# Altium integrated library Linear Technology Power Management Power Control.IntLib: 661 symbols (part 8 of 43)
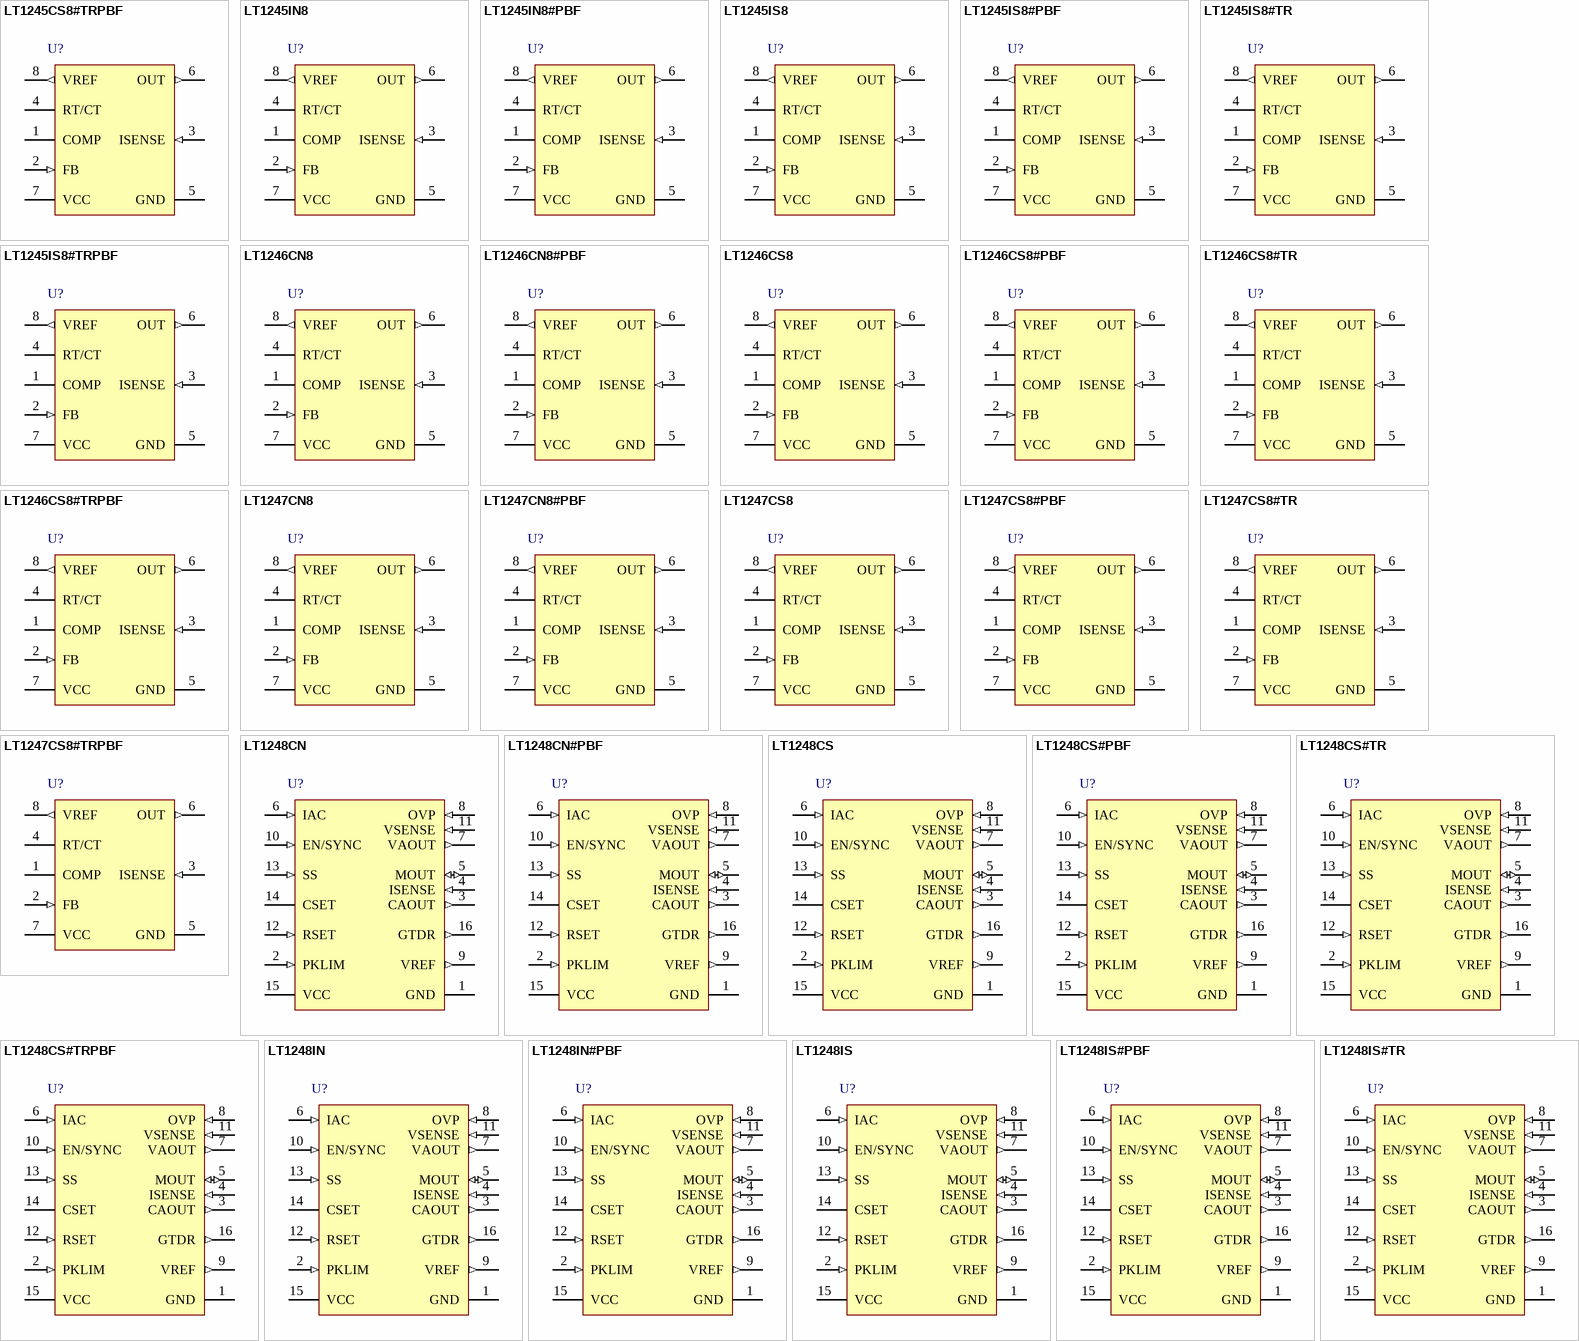
[diagram p26: symbols LT1245CS8#TRPBF to LT1248IS#TR]

## LT1247CS8#TRPBF
designator U?
1 MHz Off-Line Current Mode PWM and DC/DC Converter, 7.6 to 25 V Vin, 8-pin SOIC (S8-8), 0 to 100 degC, Pb-Free, Tape and Reel; Manufacturer: Linear Technology; PartNumber: LT1247CS8#TRPBF; DatasheetVersion: Rev. A; PackageVersion: Rev. G, 03/2012; PackageReference: S8-8; PackageDescription: 8-Pin Plastic Small Outline (Narrow .150 Inch), Body 4.9 x 3.9 mm, Pitch 1.27 mm; Supplier 1: Digi-Key; Supplier Part Number 1: LT1247CS8#TRPBF-ND; Packing: Tape and Reel; RoHS: TRUE; Mounting Technology: Surface Mount; ComponentLink1Description: Manufacturer URL; ComponentLink1URL: http://www.linear.com/; ComponentLink2Description: Datasheet; ComponentLink2URL: http://cds.linear.com/docs/en/datasheet/lt1246.pdf; ComponentLink3Description: Package Specification; ComponentLink3URL: http://cds.linear.com/docs/en/packaging/05081610_G_SO8.pdf
footprint LT-S8-8_N (SOIC, 8-Leads, Body 5x4mm, Pitch 1.27mm, IPC Medium Density)
footprint LT-S8-8_L (SOIC, 8-Leads, Body 5x4mm, Pitch 1.27mm, IPC High Density)
footprint LT-S8-8_M (SOIC, 8-Leads, Body 5x4mm, Pitch 1.27mm, IPC Low Density)
pins: 1 COMP "Compensation Pin. This pin is the output of the Error Amplifier and is made available for loop compensation. It can also be used to adjust the maximum value of the current sense clamp voltage to less than 1V. This pin can (See Datasheet)", 2 FB (in) "Voltage Feedback. This pin is the inverting input of the Error Amplifier. The output voltage is normally fed back to this pin through a resistive divider. The noninverting input of the Error Amplifier is internally committed (See Datasheet)", 3 ISENSE (in) "Current Sense. This is the input to the current sense comparator. The trip point of the comparator is set by, and is proportional to, the output voltage of the Error Amplifier.", 4 RT/CT "The oscillator frequency and the deadtime are set by connecting a resistor (RT) from VREF to RT/CT and a capacitor (CT) from RT/CT to GND. The rise time of the oscillator waveform is set by the RC time constant of RT and CT. (See Datasheet)", 5 GND (power) "Ground.", 6 OUT (out) "Current Output. This pin is the output of a high current totem pole output stage. It is capable of driving up to +/-1A of current into a capacitive load such as the gate of a MOSFET.", 7 VCC (power) "Supply Voltage. This pin is the positive supply of the control IC.", 8 VREF (out) "Reference. This is the reference output of the IC. The reference output is used to supply charging current to the external timing resistor RT. The reference provides biasing to a large portion of the internal circuitry, and (See Datasheet)"

## LT1248CN
designator U?
Power Factor Controller, 16-pin DIP (N-16), 0 to 100 degC; Manufacturer: Linear Technology; PartNumber: LT1248CN; DatasheetVersion: Rev. D; PackageVersion: Rev. I, 07/2011; PackageReference: N-16; PackageDescription: 16-Pin PDIP, Body 19.56 x 6.48 mm, Pitch 2.54 mm; Supplier 1: Digi-Key; Supplier Part Number 1: LT1248CN-ND; RoHS: FALSE; Mounting Technology: Through Hole; ComponentLink1Description: Manufacturer URL; ComponentLink1URL: http://www.linear.com/; ComponentLink2Description: Datasheet; ComponentLink2URL: http://cds.linear.com/docs/en/datasheet/1248fd.pdf; ComponentLink3Description: Package Specification; ComponentLink3URL: http://cds.linear.com/docs/en/packaging/05081510_I_N16.pdf
footprint LT-N-16 (DIP, 16-Leads, Body 19.56x6.48mm, Pitch 2.54mm)
pins: 1 GND (power), 2 PKLIM (in) "The threshold of the peak current limit comparator is GND. To set current limit, a resistor divider can be connected from VREF to current sense resistor", 3 CAOUT (out) "This is the output of the current amplifier that senses and forces the line current to follow the reference signal that comes from the multiplier by commanding the pulse width modulator. When CAOUT is low, the modulator has (See Datasheet)", 4 ISENSE (in) "This is the inverting input of the current amplifier. This pin is clamped at - 0.6V by an ESD protection diode.", 5 MOUT (io) "This is the multiplier high impedance current output and the noninverting input of the current amplifier. This pin is clamped at - 0.6V and 2V.", 6 IAC (in) "This is the AC line voltage sensing input to the multiplier. It is a current input that is biased at 2V to minimize the crossover dead zone caused by low line voltage. At the pin, a 32k resistor is in series with the current (See Datasheet)", 7 VAOUT (out) "This is the output of the voltage error amplifier. The output is clamped at 13.5V. When the output goes below 2.5V, the multiplier output current is zero.", 8 OVP (in) "This is the input to the overvoltage comparator. The threshold is 1.05 times the reference voltage. When the comparator trips, the multiplier is quickly inhibited and outputs no current. Figure 4 in the Applications (See Datasheet)", 9 VREF (out) "This is the 7.5V reference. When either VCC or EN/SYNC goes low, VREF will stay at 0V. VREF biases most of the internal circuity and can source up to 5mA externally.", 10 EN/SYNC (in) "This pin has two functions. When it goes below 2.6V, the chip goes into shutdown mode and draws little current. Pulses at this pin that go below the 5V threshold will synchronize the chip. The synchronizing pulses should (See Datasheet)", 11 VSENSE (in) "This is the inverting input to the voltage amplifier.", 12 RSET (in) "A resistor from RSET to GND sets the oscillator charging current and the maximum multiplier output current which is used to limit the maximum line current.", 13 SS (in) "Soft-Start. When either VCC or EN/SYNC goes low, the SS pin will stay at 0V. With a capacitor from the pin to GND, the 12mA charging current slowly brings up the SS to 8V; below 7.5V SS is the reference input to the voltage (See Datasheet)", 14 CSET "The capacitor from this pin to GND, and RSET, determine oscillator frequency. The oscillator ramp is 5V, and the frequency = 1.5/(RSET x CSET).", 15 VCC (power) "This is the supply for the chip. The LT1248 has a very fast gate driver required to fast charge high power MOSFET gate capacitance. High current spikes occur during charging. For good supply bypass, a 0.1uF ceramic capacitor (See Datasheet)", 16 GTDR (out) "The MOSFET gate driver is a 1.5A fast totem pole output. It is clamped at 15V, but capacitive loads like MOSFET gates may cause overshoot. A gate series resistor of at least 5ohm will prevent the overshoot."

## LT1248CN#PBF
designator U?
Power Factor Controller, 16-pin DIP (N-16), 0 to 100 degC, Pb-Free; Manufacturer: Linear Technology; PartNumber: LT1248CN#PBF; DatasheetVersion: Rev. D; PackageVersion: Rev. I, 07/2011; PackageReference: N-16; PackageDescription: 16-Pin PDIP, Body 19.56 x 6.48 mm, Pitch 2.54 mm; Supplier 1: Digi-Key; Supplier Part Number 1: LT1248CN#PBF-ND; Supplier 2: Farnell; Supplier Part Number 2: 2238178; Supplier 3: Newark; Supplier Part Number 3: 57M3014; RoHS: TRUE; Mounting Technology: Through Hole; ComponentLink1Description: Manufacturer URL; ComponentLink1URL: http://www.linear.com/; ComponentLink2Description: Datasheet; ComponentLink2URL: http://cds.linear.com/docs/en/datasheet/1248fd.pdf; ComponentLink3Description: Package Specification; ComponentLink3URL: http://cds.linear.com/docs/en/packaging/05081510_I_N16.pdf
footprint LT-N-16 (DIP, 16-Leads, Body 19.56x6.48mm, Pitch 2.54mm)
pins: 1 GND (power), 2 PKLIM (in) "The threshold of the peak current limit comparator is GND. To set current limit, a resistor divider can be connected from VREF to current sense resistor", 3 CAOUT (out) "This is the output of the current amplifier that senses and forces the line current to follow the reference signal that comes from the multiplier by commanding the pulse width modulator. When CAOUT is low, the modulator has (See Datasheet)", 4 ISENSE (in) "This is the inverting input of the current amplifier. This pin is clamped at - 0.6V by an ESD protection diode.", 5 MOUT (io) "This is the multiplier high impedance current output and the noninverting input of the current amplifier. This pin is clamped at - 0.6V and 2V.", 6 IAC (in) "This is the AC line voltage sensing input to the multiplier. It is a current input that is biased at 2V to minimize the crossover dead zone caused by low line voltage. At the pin, a 32k resistor is in series with the current (See Datasheet)", 7 VAOUT (out) "This is the output of the voltage error amplifier. The output is clamped at 13.5V. When the output goes below 2.5V, the multiplier output current is zero.", 8 OVP (in) "This is the input to the overvoltage comparator. The threshold is 1.05 times the reference voltage. When the comparator trips, the multiplier is quickly inhibited and outputs no current. Figure 4 in the Applications (See Datasheet)", 9 VREF (out) "This is the 7.5V reference. When either VCC or EN/SYNC goes low, VREF will stay at 0V. VREF biases most of the internal circuity and can source up to 5mA externally.", 10 EN/SYNC (in) "This pin has two functions. When it goes below 2.6V, the chip goes into shutdown mode and draws little current. Pulses at this pin that go below the 5V threshold will synchronize the chip. The synchronizing pulses should (See Datasheet)", 11 VSENSE (in) "This is the inverting input to the voltage amplifier.", 12 RSET (in) "A resistor from RSET to GND sets the oscillator charging current and the maximum multiplier output current which is used to limit the maximum line current.", 13 SS (in) "Soft-Start. When either VCC or EN/SYNC goes low, the SS pin will stay at 0V. With a capacitor from the pin to GND, the 12mA charging current slowly brings up the SS to 8V; below 7.5V SS is the reference input to the voltage (See Datasheet)", 14 CSET "The capacitor from this pin to GND, and RSET, determine oscillator frequency. The oscillator ramp is 5V, and the frequency = 1.5/(RSET x CSET).", 15 VCC (power) "This is the supply for the chip. The LT1248 has a very fast gate driver required to fast charge high power MOSFET gate capacitance. High current spikes occur during charging. For good supply bypass, a 0.1uF ceramic capacitor (See Datasheet)", 16 GTDR (out) "The MOSFET gate driver is a 1.5A fast totem pole output. It is clamped at 15V, but capacitive loads like MOSFET gates may cause overshoot. A gate series resistor of at least 5ohm will prevent the overshoot."

## LT1248CS
designator U?
Power Factor Controller, 16-pin SOP (S-16), 0 to 100 degC; Manufacturer: Linear Technology; PartNumber: LT1248CS; DatasheetVersion: Rev. D; PackageVersion: Rev. G, 05/2012; PackageReference: S-16; PackageDescription: 16-Pin Plastic Small Outline, Body 9.9 x 3.9 mm, Pitch 1.27 mm; Supplier 1: Digi-Key; Supplier Part Number 1: LT1248CS-ND; RoHS: FALSE; Mounting Technology: Surface Mount; ComponentLink1Description: Manufacturer URL; ComponentLink1URL: http://www.linear.com/; ComponentLink2Description: Datasheet; ComponentLink2URL: http://cds.linear.com/docs/en/datasheet/1248fd.pdf; ComponentLink3Description: Package Specification; ComponentLink3URL: http://cds.linear.com/docs/en/packaging/S16%2005-08-1610%20Rev%20G.pdf
footprint LT-S-16_N (SOP, 16-Leads, Body 10x4mm, Pitch 1.27mm, IPC Medium Density)
footprint LT-S-16_L (SOP, 16-Leads, Body 10x4mm, Pitch 1.27mm, IPC High Density)
footprint LT-S-16_M (SOP, 16-Leads, Body 10x4mm, Pitch 1.27mm, IPC Low Density)
pins: 1 GND (power), 2 PKLIM (in) "The threshold of the peak current limit comparator is GND. To set current limit, a resistor divider can be connected from VREF to current sense resistor", 3 CAOUT (out) "This is the output of the current amplifier that senses and forces the line current to follow the reference signal that comes from the multiplier by commanding the pulse width modulator. When CAOUT is low, the modulator has (See Datasheet)", 4 ISENSE (in) "This is the inverting input of the current amplifier. This pin is clamped at - 0.6V by an ESD protection diode.", 5 MOUT (io) "This is the multiplier high impedance current output and the noninverting input of the current amplifier. This pin is clamped at - 0.6V and 2V.", 6 IAC (in) "This is the AC line voltage sensing input to the multiplier. It is a current input that is biased at 2V to minimize the crossover dead zone caused by low line voltage. At the pin, a 32k resistor is in series with the current (See Datasheet)", 7 VAOUT (out) "This is the output of the voltage error amplifier. The output is clamped at 13.5V. When the output goes below 2.5V, the multiplier output current is zero.", 8 OVP (in) "This is the input to the overvoltage comparator. The threshold is 1.05 times the reference voltage. When the comparator trips, the multiplier is quickly inhibited and outputs no current. Figure 4 in the Applications (See Datasheet)", 9 VREF (out) "This is the 7.5V reference. When either VCC or EN/SYNC goes low, VREF will stay at 0V. VREF biases most of the internal circuity and can source up to 5mA externally.", 10 EN/SYNC (in) "This pin has two functions. When it goes below 2.6V, the chip goes into shutdown mode and draws little current. Pulses at this pin that go below the 5V threshold will synchronize the chip. The synchronizing pulses should (See Datasheet)", 11 VSENSE (in) "This is the inverting input to the voltage amplifier.", 12 RSET (in) "A resistor from RSET to GND sets the oscillator charging current and the maximum multiplier output current which is used to limit the maximum line current.", 13 SS (in) "Soft-Start. When either VCC or EN/SYNC goes low, the SS pin will stay at 0V. With a capacitor from the pin to GND, the 12mA charging current slowly brings up the SS to 8V; below 7.5V SS is the reference input to the voltage (See Datasheet)", 14 CSET "The capacitor from this pin to GND, and RSET, determine oscillator frequency. The oscillator ramp is 5V, and the frequency = 1.5/(RSET x CSET).", 15 VCC (power) "This is the supply for the chip. The LT1248 has a very fast gate driver required to fast charge high power MOSFET gate capacitance. High current spikes occur during charging. For good supply bypass, a 0.1uF ceramic capacitor (See Datasheet)", 16 GTDR (out) "The MOSFET gate driver is a 1.5A fast totem pole output. It is clamped at 15V, but capacitive loads like MOSFET gates may cause overshoot. A gate series resistor of at least 5ohm will prevent the overshoot."

## LT1248CS#PBF
designator U?
Power Factor Controller, 16-pin SOP (S-16), 0 to 100 degC, Pb-Free; Manufacturer: Linear Technology; PartNumber: LT1248CS#PBF; DatasheetVersion: Rev. D; PackageVersion: Rev. G, 05/2012; PackageReference: S-16; PackageDescription: 16-Pin Plastic Small Outline, Body 9.9 x 3.9 mm, Pitch 1.27 mm; Supplier 1: Digi-Key; Supplier Part Number 1: LT1248CS#PBF-ND; Supplier 2: Farnell; Supplier Part Number 2: 1273702; Supplier 3: Newark; Supplier Part Number 3: 57M3016; RoHS: TRUE; Mounting Technology: Surface Mount; ComponentLink1Description: Manufacturer URL; ComponentLink1URL: http://www.linear.com/; ComponentLink2Description: Datasheet; ComponentLink2URL: http://cds.linear.com/docs/en/datasheet/1248fd.pdf; ComponentLink3Description: Package Specification; ComponentLink3URL: http://cds.linear.com/docs/en/packaging/S16%2005-08-1610%20Rev%20G.pdf
footprint LT-S-16_N (SOP, 16-Leads, Body 10x4mm, Pitch 1.27mm, IPC Medium Density)
footprint LT-S-16_L (SOP, 16-Leads, Body 10x4mm, Pitch 1.27mm, IPC High Density)
footprint LT-S-16_M (SOP, 16-Leads, Body 10x4mm, Pitch 1.27mm, IPC Low Density)
pins: 1 GND (power), 2 PKLIM (in) "The threshold of the peak current limit comparator is GND. To set current limit, a resistor divider can be connected from VREF to current sense resistor", 3 CAOUT (out) "This is the output of the current amplifier that senses and forces the line current to follow the reference signal that comes from the multiplier by commanding the pulse width modulator. When CAOUT is low, the modulator has (See Datasheet)", 4 ISENSE (in) "This is the inverting input of the current amplifier. This pin is clamped at - 0.6V by an ESD protection diode.", 5 MOUT (io) "This is the multiplier high impedance current output and the noninverting input of the current amplifier. This pin is clamped at - 0.6V and 2V.", 6 IAC (in) "This is the AC line voltage sensing input to the multiplier. It is a current input that is biased at 2V to minimize the crossover dead zone caused by low line voltage. At the pin, a 32k resistor is in series with the current (See Datasheet)", 7 VAOUT (out) "This is the output of the voltage error amplifier. The output is clamped at 13.5V. When the output goes below 2.5V, the multiplier output current is zero.", 8 OVP (in) "This is the input to the overvoltage comparator. The threshold is 1.05 times the reference voltage. When the comparator trips, the multiplier is quickly inhibited and outputs no current. Figure 4 in the Applications (See Datasheet)", 9 VREF (out) "This is the 7.5V reference. When either VCC or EN/SYNC goes low, VREF will stay at 0V. VREF biases most of the internal circuity and can source up to 5mA externally.", 10 EN/SYNC (in) "This pin has two functions. When it goes below 2.6V, the chip goes into shutdown mode and draws little current. Pulses at this pin that go below the 5V threshold will synchronize the chip. The synchronizing pulses should (See Datasheet)", 11 VSENSE (in) "This is the inverting input to the voltage amplifier.", 12 RSET (in) "A resistor from RSET to GND sets the oscillator charging current and the maximum multiplier output current which is used to limit the maximum line current.", 13 SS (in) "Soft-Start. When either VCC or EN/SYNC goes low, the SS pin will stay at 0V. With a capacitor from the pin to GND, the 12mA charging current slowly brings up the SS to 8V; below 7.5V SS is the reference input to the voltage (See Datasheet)", 14 CSET "The capacitor from this pin to GND, and RSET, determine oscillator frequency. The oscillator ramp is 5V, and the frequency = 1.5/(RSET x CSET).", 15 VCC (power) "This is the supply for the chip. The LT1248 has a very fast gate driver required to fast charge high power MOSFET gate capacitance. High current spikes occur during charging. For good supply bypass, a 0.1uF ceramic capacitor (See Datasheet)", 16 GTDR (out) "The MOSFET gate driver is a 1.5A fast totem pole output. It is clamped at 15V, but capacitive loads like MOSFET gates may cause overshoot. A gate series resistor of at least 5ohm will prevent the overshoot."

## LT1248CS#TR
designator U?
Power Factor Controller, 16-pin SOP (S-16), 0 to 100 degC, Tape and Reel; Manufacturer: Linear Technology; PartNumber: LT1248CS#TR; DatasheetVersion: Rev. D; PackageVersion: Rev. G, 05/2012; PackageReference: S-16; PackageDescription: 16-Pin Plastic Small Outline, Body 9.9 x 3.9 mm, Pitch 1.27 mm; Supplier 1: Digi-Key; Supplier Part Number 1: LT1248CS#TR-ND; Packing: Tape and Reel; RoHS: FALSE; Mounting Technology: Surface Mount; ComponentLink1Description: Manufacturer URL; ComponentLink1URL: http://www.linear.com/; ComponentLink2Description: Datasheet; ComponentLink2URL: http://cds.linear.com/docs/en/datasheet/1248fd.pdf; ComponentLink3Description: Package Specification; ComponentLink3URL: http://cds.linear.com/docs/en/packaging/S16%2005-08-1610%20Rev%20G.pdf
footprint LT-S-16_N (SOP, 16-Leads, Body 10x4mm, Pitch 1.27mm, IPC Medium Density)
footprint LT-S-16_L (SOP, 16-Leads, Body 10x4mm, Pitch 1.27mm, IPC High Density)
footprint LT-S-16_M (SOP, 16-Leads, Body 10x4mm, Pitch 1.27mm, IPC Low Density)
pins: 1 GND (power), 2 PKLIM (in) "The threshold of the peak current limit comparator is GND. To set current limit, a resistor divider can be connected from VREF to current sense resistor", 3 CAOUT (out) "This is the output of the current amplifier that senses and forces the line current to follow the reference signal that comes from the multiplier by commanding the pulse width modulator. When CAOUT is low, the modulator has (See Datasheet)", 4 ISENSE (in) "This is the inverting input of the current amplifier. This pin is clamped at - 0.6V by an ESD protection diode.", 5 MOUT (io) "This is the multiplier high impedance current output and the noninverting input of the current amplifier. This pin is clamped at - 0.6V and 2V.", 6 IAC (in) "This is the AC line voltage sensing input to the multiplier. It is a current input that is biased at 2V to minimize the crossover dead zone caused by low line voltage. At the pin, a 32k resistor is in series with the current (See Datasheet)", 7 VAOUT (out) "This is the output of the voltage error amplifier. The output is clamped at 13.5V. When the output goes below 2.5V, the multiplier output current is zero.", 8 OVP (in) "This is the input to the overvoltage comparator. The threshold is 1.05 times the reference voltage. When the comparator trips, the multiplier is quickly inhibited and outputs no current. Figure 4 in the Applications (See Datasheet)", 9 VREF (out) "This is the 7.5V reference. When either VCC or EN/SYNC goes low, VREF will stay at 0V. VREF biases most of the internal circuity and can source up to 5mA externally.", 10 EN/SYNC (in) "This pin has two functions. When it goes below 2.6V, the chip goes into shutdown mode and draws little current. Pulses at this pin that go below the 5V threshold will synchronize the chip. The synchronizing pulses should (See Datasheet)", 11 VSENSE (in) "This is the inverting input to the voltage amplifier.", 12 RSET (in) "A resistor from RSET to GND sets the oscillator charging current and the maximum multiplier output current which is used to limit the maximum line current.", 13 SS (in) "Soft-Start. When either VCC or EN/SYNC goes low, the SS pin will stay at 0V. With a capacitor from the pin to GND, the 12mA charging current slowly brings up the SS to 8V; below 7.5V SS is the reference input to the voltage (See Datasheet)", 14 CSET "The capacitor from this pin to GND, and RSET, determine oscillator frequency. The oscillator ramp is 5V, and the frequency = 1.5/(RSET x CSET).", 15 VCC (power) "This is the supply for the chip. The LT1248 has a very fast gate driver required to fast charge high power MOSFET gate capacitance. High current spikes occur during charging. For good supply bypass, a 0.1uF ceramic capacitor (See Datasheet)", 16 GTDR (out) "The MOSFET gate driver is a 1.5A fast totem pole output. It is clamped at 15V, but capacitive loads like MOSFET gates may cause overshoot. A gate series resistor of at least 5ohm will prevent the overshoot."

## LT1248CS#TRPBF
designator U?
Power Factor Controller, 16-pin SOP (S-16), 0 to 100 degC, Pb-Free, Tape and Reel; Manufacturer: Linear Technology; PartNumber: LT1248CS#TRPBF; DatasheetVersion: Rev. D; PackageVersion: Rev. G, 05/2012; PackageReference: S-16; PackageDescription: 16-Pin Plastic Small Outline, Body 9.9 x 3.9 mm, Pitch 1.27 mm; Supplier 1: Digi-Key; Supplier Part Number 1: LT1248CS#TRPBF-ND; Supplier 2: Newark; Supplier Part Number 2: 57M3018; Packing: Tape and Reel; RoHS: TRUE; Mounting Technology: Surface Mount; ComponentLink1Description: Manufacturer URL; ComponentLink1URL: http://www.linear.com/; ComponentLink2Description: Datasheet; ComponentLink2URL: http://cds.linear.com/docs/en/datasheet/1248fd.pdf; ComponentLink3Description: Package Specification; ComponentLink3URL: http://cds.linear.com/docs/en/packaging/S16%2005-08-1610%20Rev%20G.pdf
footprint LT-S-16_N (SOP, 16-Leads, Body 10x4mm, Pitch 1.27mm, IPC Medium Density)
footprint LT-S-16_L (SOP, 16-Leads, Body 10x4mm, Pitch 1.27mm, IPC High Density)
footprint LT-S-16_M (SOP, 16-Leads, Body 10x4mm, Pitch 1.27mm, IPC Low Density)
pins: 1 GND (power), 2 PKLIM (in) "The threshold of the peak current limit comparator is GND. To set current limit, a resistor divider can be connected from VREF to current sense resistor", 3 CAOUT (out) "This is the output of the current amplifier that senses and forces the line current to follow the reference signal that comes from the multiplier by commanding the pulse width modulator. When CAOUT is low, the modulator has (See Datasheet)", 4 ISENSE (in) "This is the inverting input of the current amplifier. This pin is clamped at - 0.6V by an ESD protection diode.", 5 MOUT (io) "This is the multiplier high impedance current output and the noninverting input of the current amplifier. This pin is clamped at - 0.6V and 2V.", 6 IAC (in) "This is the AC line voltage sensing input to the multiplier. It is a current input that is biased at 2V to minimize the crossover dead zone caused by low line voltage. At the pin, a 32k resistor is in series with the current (See Datasheet)", 7 VAOUT (out) "This is the output of the voltage error amplifier. The output is clamped at 13.5V. When the output goes below 2.5V, the multiplier output current is zero.", 8 OVP (in) "This is the input to the overvoltage comparator. The threshold is 1.05 times the reference voltage. When the comparator trips, the multiplier is quickly inhibited and outputs no current. Figure 4 in the Applications (See Datasheet)", 9 VREF (out) "This is the 7.5V reference. When either VCC or EN/SYNC goes low, VREF will stay at 0V. VREF biases most of the internal circuity and can source up to 5mA externally.", 10 EN/SYNC (in) "This pin has two functions. When it goes below 2.6V, the chip goes into shutdown mode and draws little current. Pulses at this pin that go below the 5V threshold will synchronize the chip. The synchronizing pulses should (See Datasheet)", 11 VSENSE (in) "This is the inverting input to the voltage amplifier.", 12 RSET (in) "A resistor from RSET to GND sets the oscillator charging current and the maximum multiplier output current which is used to limit the maximum line current.", 13 SS (in) "Soft-Start. When either VCC or EN/SYNC goes low, the SS pin will stay at 0V. With a capacitor from the pin to GND, the 12mA charging current slowly brings up the SS to 8V; below 7.5V SS is the reference input to the voltage (See Datasheet)", 14 CSET "The capacitor from this pin to GND, and RSET, determine oscillator frequency. The oscillator ramp is 5V, and the frequency = 1.5/(RSET x CSET).", 15 VCC (power) "This is the supply for the chip. The LT1248 has a very fast gate driver required to fast charge high power MOSFET gate capacitance. High current spikes occur during charging. For good supply bypass, a 0.1uF ceramic capacitor (See Datasheet)", 16 GTDR (out) "The MOSFET gate driver is a 1.5A fast totem pole output. It is clamped at 15V, but capacitive loads like MOSFET gates may cause overshoot. A gate series resistor of at least 5ohm will prevent the overshoot."

## LT1248IN
designator U?
Power Factor Controller, 16-pin DIP (N-16), -40 to 125 degC; Manufacturer: Linear Technology; PartNumber: LT1248IN; DatasheetVersion: Rev. D; PackageVersion: Rev. I, 07/2011; PackageReference: N-16; PackageDescription: 16-Pin PDIP, Body 19.56 x 6.48 mm, Pitch 2.54 mm; Supplier 1: Digi-Key; Supplier Part Number 1: LT1248IN-ND; RoHS: FALSE; Mounting Technology: Through Hole; ComponentLink1Description: Manufacturer URL; ComponentLink1URL: http://www.linear.com/; ComponentLink2Description: Datasheet; ComponentLink2URL: http://cds.linear.com/docs/en/datasheet/1248fd.pdf; ComponentLink3Description: Package Specification; ComponentLink3URL: http://cds.linear.com/docs/en/packaging/05081510_I_N16.pdf
footprint LT-N-16 (DIP, 16-Leads, Body 19.56x6.48mm, Pitch 2.54mm)
pins: 1 GND (power), 2 PKLIM (in) "The threshold of the peak current limit comparator is GND. To set current limit, a resistor divider can be connected from VREF to current sense resistor", 3 CAOUT (out) "This is the output of the current amplifier that senses and forces the line current to follow the reference signal that comes from the multiplier by commanding the pulse width modulator. When CAOUT is low, the modulator has (See Datasheet)", 4 ISENSE (in) "This is the inverting input of the current amplifier. This pin is clamped at - 0.6V by an ESD protection diode.", 5 MOUT (io) "This is the multiplier high impedance current output and the noninverting input of the current amplifier. This pin is clamped at - 0.6V and 2V.", 6 IAC (in) "This is the AC line voltage sensing input to the multiplier. It is a current input that is biased at 2V to minimize the crossover dead zone caused by low line voltage. At the pin, a 32k resistor is in series with the current (See Datasheet)", 7 VAOUT (out) "This is the output of the voltage error amplifier. The output is clamped at 13.5V. When the output goes below 2.5V, the multiplier output current is zero.", 8 OVP (in) "This is the input to the overvoltage comparator. The threshold is 1.05 times the reference voltage. When the comparator trips, the multiplier is quickly inhibited and outputs no current. Figure 4 in the Applications (See Datasheet)", 9 VREF (out) "This is the 7.5V reference. When either VCC or EN/SYNC goes low, VREF will stay at 0V. VREF biases most of the internal circuity and can source up to 5mA externally.", 10 EN/SYNC (in) "This pin has two functions. When it goes below 2.6V, the chip goes into shutdown mode and draws little current. Pulses at this pin that go below the 5V threshold will synchronize the chip. The synchronizing pulses should (See Datasheet)", 11 VSENSE (in) "This is the inverting input to the voltage amplifier.", 12 RSET (in) "A resistor from RSET to GND sets the oscillator charging current and the maximum multiplier output current which is used to limit the maximum line current.", 13 SS (in) "Soft-Start. When either VCC or EN/SYNC goes low, the SS pin will stay at 0V. With a capacitor from the pin to GND, the 12mA charging current slowly brings up the SS to 8V; below 7.5V SS is the reference input to the voltage (See Datasheet)", 14 CSET "The capacitor from this pin to GND, and RSET, determine oscillator frequency. The oscillator ramp is 5V, and the frequency = 1.5/(RSET x CSET).", 15 VCC (power) "This is the supply for the chip. The LT1248 has a very fast gate driver required to fast charge high power MOSFET gate capacitance. High current spikes occur during charging. For good supply bypass, a 0.1uF ceramic capacitor (See Datasheet)", 16 GTDR (out) "The MOSFET gate driver is a 1.5A fast totem pole output. It is clamped at 15V, but capacitive loads like MOSFET gates may cause overshoot. A gate series resistor of at least 5ohm will prevent the overshoot."

## LT1248IN#PBF
designator U?
Power Factor Controller, 16-pin DIP (N-16), -40 to 125 degC, Pb-Free; Manufacturer: Linear Technology; PartNumber: LT1248IN#PBF; DatasheetVersion: Rev. D; PackageVersion: Rev. I, 07/2011; PackageReference: N-16; PackageDescription: 16-Pin PDIP, Body 19.56 x 6.48 mm, Pitch 2.54 mm; Supplier 1: Digi-Key; Supplier Part Number 1: LT1248IN#PBF-ND; RoHS: TRUE; Mounting Technology: Through Hole; ComponentLink1Description: Manufacturer URL; ComponentLink1URL: http://www.linear.com/; ComponentLink2Description: Datasheet; ComponentLink2URL: http://cds.linear.com/docs/en/datasheet/1248fd.pdf; ComponentLink3Description: Package Specification; ComponentLink3URL: http://cds.linear.com/docs/en/packaging/05081510_I_N16.pdf
footprint LT-N-16 (DIP, 16-Leads, Body 19.56x6.48mm, Pitch 2.54mm)
pins: 1 GND (power), 2 PKLIM (in) "The threshold of the peak current limit comparator is GND. To set current limit, a resistor divider can be connected from VREF to current sense resistor", 3 CAOUT (out) "This is the output of the current amplifier that senses and forces the line current to follow the reference signal that comes from the multiplier by commanding the pulse width modulator. When CAOUT is low, the modulator has (See Datasheet)", 4 ISENSE (in) "This is the inverting input of the current amplifier. This pin is clamped at - 0.6V by an ESD protection diode.", 5 MOUT (io) "This is the multiplier high impedance current output and the noninverting input of the current amplifier. This pin is clamped at - 0.6V and 2V.", 6 IAC (in) "This is the AC line voltage sensing input to the multiplier. It is a current input that is biased at 2V to minimize the crossover dead zone caused by low line voltage. At the pin, a 32k resistor is in series with the current (See Datasheet)", 7 VAOUT (out) "This is the output of the voltage error amplifier. The output is clamped at 13.5V. When the output goes below 2.5V, the multiplier output current is zero.", 8 OVP (in) "This is the input to the overvoltage comparator. The threshold is 1.05 times the reference voltage. When the comparator trips, the multiplier is quickly inhibited and outputs no current. Figure 4 in the Applications (See Datasheet)", 9 VREF (out) "This is the 7.5V reference. When either VCC or EN/SYNC goes low, VREF will stay at 0V. VREF biases most of the internal circuity and can source up to 5mA externally.", 10 EN/SYNC (in) "This pin has two functions. When it goes below 2.6V, the chip goes into shutdown mode and draws little current. Pulses at this pin that go below the 5V threshold will synchronize the chip. The synchronizing pulses should (See Datasheet)", 11 VSENSE (in) "This is the inverting input to the voltage amplifier.", 12 RSET (in) "A resistor from RSET to GND sets the oscillator charging current and the maximum multiplier output current which is used to limit the maximum line current.", 13 SS (in) "Soft-Start. When either VCC or EN/SYNC goes low, the SS pin will stay at 0V. With a capacitor from the pin to GND, the 12mA charging current slowly brings up the SS to 8V; below 7.5V SS is the reference input to the voltage (See Datasheet)", 14 CSET "The capacitor from this pin to GND, and RSET, determine oscillator frequency. The oscillator ramp is 5V, and the frequency = 1.5/(RSET x CSET).", 15 VCC (power) "This is the supply for the chip. The LT1248 has a very fast gate driver required to fast charge high power MOSFET gate capacitance. High current spikes occur during charging. For good supply bypass, a 0.1uF ceramic capacitor (See Datasheet)", 16 GTDR (out) "The MOSFET gate driver is a 1.5A fast totem pole output. It is clamped at 15V, but capacitive loads like MOSFET gates may cause overshoot. A gate series resistor of at least 5ohm will prevent the overshoot."

## LT1248IS
designator U?
Power Factor Controller, 16-pin SOP (S-16), -40 to 125 degC; Manufacturer: Linear Technology; PartNumber: LT1248IS; DatasheetVersion: Rev. D; PackageVersion: Rev. G, 05/2012; PackageReference: S-16; PackageDescription: 16-Pin Plastic Small Outline, Body 9.9 x 3.9 mm, Pitch 1.27 mm; Supplier 1: Digi-Key; Supplier Part Number 1: LT1248IS-ND; Supplier 2: Newark; Supplier Part Number 2: 57M3021; RoHS: FALSE; Mounting Technology: Surface Mount; ComponentLink1Description: Manufacturer URL; ComponentLink1URL: http://www.linear.com/; ComponentLink2Description: Datasheet; ComponentLink2URL: http://cds.linear.com/docs/en/datasheet/1248fd.pdf; ComponentLink3Description: Package Specification; ComponentLink3URL: http://cds.linear.com/docs/en/packaging/S16%2005-08-1610%20Rev%20G.pdf
footprint LT-S-16_N (SOP, 16-Leads, Body 10x4mm, Pitch 1.27mm, IPC Medium Density)
footprint LT-S-16_L (SOP, 16-Leads, Body 10x4mm, Pitch 1.27mm, IPC High Density)
footprint LT-S-16_M (SOP, 16-Leads, Body 10x4mm, Pitch 1.27mm, IPC Low Density)
pins: 1 GND (power), 2 PKLIM (in) "The threshold of the peak current limit comparator is GND. To set current limit, a resistor divider can be connected from VREF to current sense resistor", 3 CAOUT (out) "This is the output of the current amplifier that senses and forces the line current to follow the reference signal that comes from the multiplier by commanding the pulse width modulator. When CAOUT is low, the modulator has (See Datasheet)", 4 ISENSE (in) "This is the inverting input of the current amplifier. This pin is clamped at - 0.6V by an ESD protection diode.", 5 MOUT (io) "This is the multiplier high impedance current output and the noninverting input of the current amplifier. This pin is clamped at - 0.6V and 2V.", 6 IAC (in) "This is the AC line voltage sensing input to the multiplier. It is a current input that is biased at 2V to minimize the crossover dead zone caused by low line voltage. At the pin, a 32k resistor is in series with the current (See Datasheet)", 7 VAOUT (out) "This is the output of the voltage error amplifier. The output is clamped at 13.5V. When the output goes below 2.5V, the multiplier output current is zero.", 8 OVP (in) "This is the input to the overvoltage comparator. The threshold is 1.05 times the reference voltage. When the comparator trips, the multiplier is quickly inhibited and outputs no current. Figure 4 in the Applications (See Datasheet)", 9 VREF (out) "This is the 7.5V reference. When either VCC or EN/SYNC goes low, VREF will stay at 0V. VREF biases most of the internal circuity and can source up to 5mA externally.", 10 EN/SYNC (in) "This pin has two functions. When it goes below 2.6V, the chip goes into shutdown mode and draws little current. Pulses at this pin that go below the 5V threshold will synchronize the chip. The synchronizing pulses should (See Datasheet)", 11 VSENSE (in) "This is the inverting input to the voltage amplifier.", 12 RSET (in) "A resistor from RSET to GND sets the oscillator charging current and the maximum multiplier output current which is used to limit the maximum line current.", 13 SS (in) "Soft-Start. When either VCC or EN/SYNC goes low, the SS pin will stay at 0V. With a capacitor from the pin to GND, the 12mA charging current slowly brings up the SS to 8V; below 7.5V SS is the reference input to the voltage (See Datasheet)", 14 CSET "The capacitor from this pin to GND, and RSET, determine oscillator frequency. The oscillator ramp is 5V, and the frequency = 1.5/(RSET x CSET).", 15 VCC (power) "This is the supply for the chip. The LT1248 has a very fast gate driver required to fast charge high power MOSFET gate capacitance. High current spikes occur during charging. For good supply bypass, a 0.1uF ceramic capacitor (See Datasheet)", 16 GTDR (out) "The MOSFET gate driver is a 1.5A fast totem pole output. It is clamped at 15V, but capacitive loads like MOSFET gates may cause overshoot. A gate series resistor of at least 5ohm will prevent the overshoot."

## LT1248IS#PBF
designator U?
Power Factor Controller, 16-pin SOP (S-16), -40 to 125 degC, Pb-Free; Manufacturer: Linear Technology; PartNumber: LT1248IS#PBF; DatasheetVersion: Rev. D; PackageVersion: Rev. G, 05/2012; PackageReference: S-16; PackageDescription: 16-Pin Plastic Small Outline, Body 9.9 x 3.9 mm, Pitch 1.27 mm; Supplier 1: Digi-Key; Supplier Part Number 1: LT1248IS#PBF-ND; Supplier 2: Farnell; Supplier Part Number 2: 2238179; Supplier 3: Newark; Supplier Part Number 3: 57M3022; RoHS: TRUE; Mounting Technology: Surface Mount; ComponentLink1Description: Manufacturer URL; ComponentLink1URL: http://www.linear.com/; ComponentLink2Description: Datasheet; ComponentLink2URL: http://cds.linear.com/docs/en/datasheet/1248fd.pdf; ComponentLink3Description: Package Specification; ComponentLink3URL: http://cds.linear.com/docs/en/packaging/S16%2005-08-1610%20Rev%20G.pdf
footprint LT-S-16_N (SOP, 16-Leads, Body 10x4mm, Pitch 1.27mm, IPC Medium Density)
footprint LT-S-16_L (SOP, 16-Leads, Body 10x4mm, Pitch 1.27mm, IPC High Density)
footprint LT-S-16_M (SOP, 16-Leads, Body 10x4mm, Pitch 1.27mm, IPC Low Density)
pins: 1 GND (power), 2 PKLIM (in) "The threshold of the peak current limit comparator is GND. To set current limit, a resistor divider can be connected from VREF to current sense resistor", 3 CAOUT (out) "This is the output of the current amplifier that senses and forces the line current to follow the reference signal that comes from the multiplier by commanding the pulse width modulator. When CAOUT is low, the modulator has (See Datasheet)", 4 ISENSE (in) "This is the inverting input of the current amplifier. This pin is clamped at - 0.6V by an ESD protection diode.", 5 MOUT (io) "This is the multiplier high impedance current output and the noninverting input of the current amplifier. This pin is clamped at - 0.6V and 2V.", 6 IAC (in) "This is the AC line voltage sensing input to the multiplier. It is a current input that is biased at 2V to minimize the crossover dead zone caused by low line voltage. At the pin, a 32k resistor is in series with the current (See Datasheet)", 7 VAOUT (out) "This is the output of the voltage error amplifier. The output is clamped at 13.5V. When the output goes below 2.5V, the multiplier output current is zero.", 8 OVP (in) "This is the input to the overvoltage comparator. The threshold is 1.05 times the reference voltage. When the comparator trips, the multiplier is quickly inhibited and outputs no current. Figure 4 in the Applications (See Datasheet)", 9 VREF (out) "This is the 7.5V reference. When either VCC or EN/SYNC goes low, VREF will stay at 0V. VREF biases most of the internal circuity and can source up to 5mA externally.", 10 EN/SYNC (in) "This pin has two functions. When it goes below 2.6V, the chip goes into shutdown mode and draws little current. Pulses at this pin that go below the 5V threshold will synchronize the chip. The synchronizing pulses should (See Datasheet)", 11 VSENSE (in) "This is the inverting input to the voltage amplifier.", 12 RSET (in) "A resistor from RSET to GND sets the oscillator charging current and the maximum multiplier output current which is used to limit the maximum line current.", 13 SS (in) "Soft-Start. When either VCC or EN/SYNC goes low, the SS pin will stay at 0V. With a capacitor from the pin to GND, the 12mA charging current slowly brings up the SS to 8V; below 7.5V SS is the reference input to the voltage (See Datasheet)", 14 CSET "The capacitor from this pin to GND, and RSET, determine oscillator frequency. The oscillator ramp is 5V, and the frequency = 1.5/(RSET x CSET).", 15 VCC (power) "This is the supply for the chip. The LT1248 has a very fast gate driver required to fast charge high power MOSFET gate capacitance. High current spikes occur during charging. For good supply bypass, a 0.1uF ceramic capacitor (See Datasheet)", 16 GTDR (out) "The MOSFET gate driver is a 1.5A fast totem pole output. It is clamped at 15V, but capacitive loads like MOSFET gates may cause overshoot. A gate series resistor of at least 5ohm will prevent the overshoot."

## LT1248IS#TR
designator U?
Power Factor Controller, 16-pin SOP (S-16), -40 to 125 degC, Tape and Reel; Manufacturer: Linear Technology; PartNumber: LT1248IS#TR; DatasheetVersion: Rev. D; PackageVersion: Rev. G, 05/2012; PackageReference: S-16; PackageDescription: 16-Pin Plastic Small Outline, Body 9.9 x 3.9 mm, Pitch 1.27 mm; Supplier 1: Digi-Key; Supplier Part Number 1: LT1248IS#TR-ND; Packing: Tape and Reel; RoHS: FALSE; Mounting Technology: Surface Mount; ComponentLink1Description: Manufacturer URL; ComponentLink1URL: http://www.linear.com/; ComponentLink2Description: Datasheet; ComponentLink2URL: http://cds.linear.com/docs/en/datasheet/1248fd.pdf; ComponentLink3Description: Package Specification; ComponentLink3URL: http://cds.linear.com/docs/en/packaging/S16%2005-08-1610%20Rev%20G.pdf
footprint LT-S-16_N (SOP, 16-Leads, Body 10x4mm, Pitch 1.27mm, IPC Medium Density)
footprint LT-S-16_L (SOP, 16-Leads, Body 10x4mm, Pitch 1.27mm, IPC High Density)
footprint LT-S-16_M (SOP, 16-Leads, Body 10x4mm, Pitch 1.27mm, IPC Low Density)
pins: 1 GND (power), 2 PKLIM (in) "The threshold of the peak current limit comparator is GND. To set current limit, a resistor divider can be connected from VREF to current sense resistor", 3 CAOUT (out) "This is the output of the current amplifier that senses and forces the line current to follow the reference signal that comes from the multiplier by commanding the pulse width modulator. When CAOUT is low, the modulator has (See Datasheet)", 4 ISENSE (in) "This is the inverting input of the current amplifier. This pin is clamped at - 0.6V by an ESD protection diode.", 5 MOUT (io) "This is the multiplier high impedance current output and the noninverting input of the current amplifier. This pin is clamped at - 0.6V and 2V.", 6 IAC (in) "This is the AC line voltage sensing input to the multiplier. It is a current input that is biased at 2V to minimize the crossover dead zone caused by low line voltage. At the pin, a 32k resistor is in series with the current (See Datasheet)", 7 VAOUT (out) "This is the output of the voltage error amplifier. The output is clamped at 13.5V. When the output goes below 2.5V, the multiplier output current is zero.", 8 OVP (in) "This is the input to the overvoltage comparator. The threshold is 1.05 times the reference voltage. When the comparator trips, the multiplier is quickly inhibited and outputs no current. Figure 4 in the Applications (See Datasheet)", 9 VREF (out) "This is the 7.5V reference. When either VCC or EN/SYNC goes low, VREF will stay at 0V. VREF biases most of the internal circuity and can source up to 5mA externally.", 10 EN/SYNC (in) "This pin has two functions. When it goes below 2.6V, the chip goes into shutdown mode and draws little current. Pulses at this pin that go below the 5V threshold will synchronize the chip. The synchronizing pulses should (See Datasheet)", 11 VSENSE (in) "This is the inverting input to the voltage amplifier.", 12 RSET (in) "A resistor from RSET to GND sets the oscillator charging current and the maximum multiplier output current which is used to limit the maximum line current.", 13 SS (in) "Soft-Start. When either VCC or EN/SYNC goes low, the SS pin will stay at 0V. With a capacitor from the pin to GND, the 12mA charging current slowly brings up the SS to 8V; below 7.5V SS is the reference input to the voltage (See Datasheet)", 14 CSET "The capacitor from this pin to GND, and RSET, determine oscillator frequency. The oscillator ramp is 5V, and the frequency = 1.5/(RSET x CSET).", 15 VCC (power) "This is the supply for the chip. The LT1248 has a very fast gate driver required to fast charge high power MOSFET gate capacitance. High current spikes occur during charging. For good supply bypass, a 0.1uF ceramic capacitor (See Datasheet)", 16 GTDR (out) "The MOSFET gate driver is a 1.5A fast totem pole output. It is clamped at 15V, but capacitive loads like MOSFET gates may cause overshoot. A gate series resistor of at least 5ohm will prevent the overshoot."

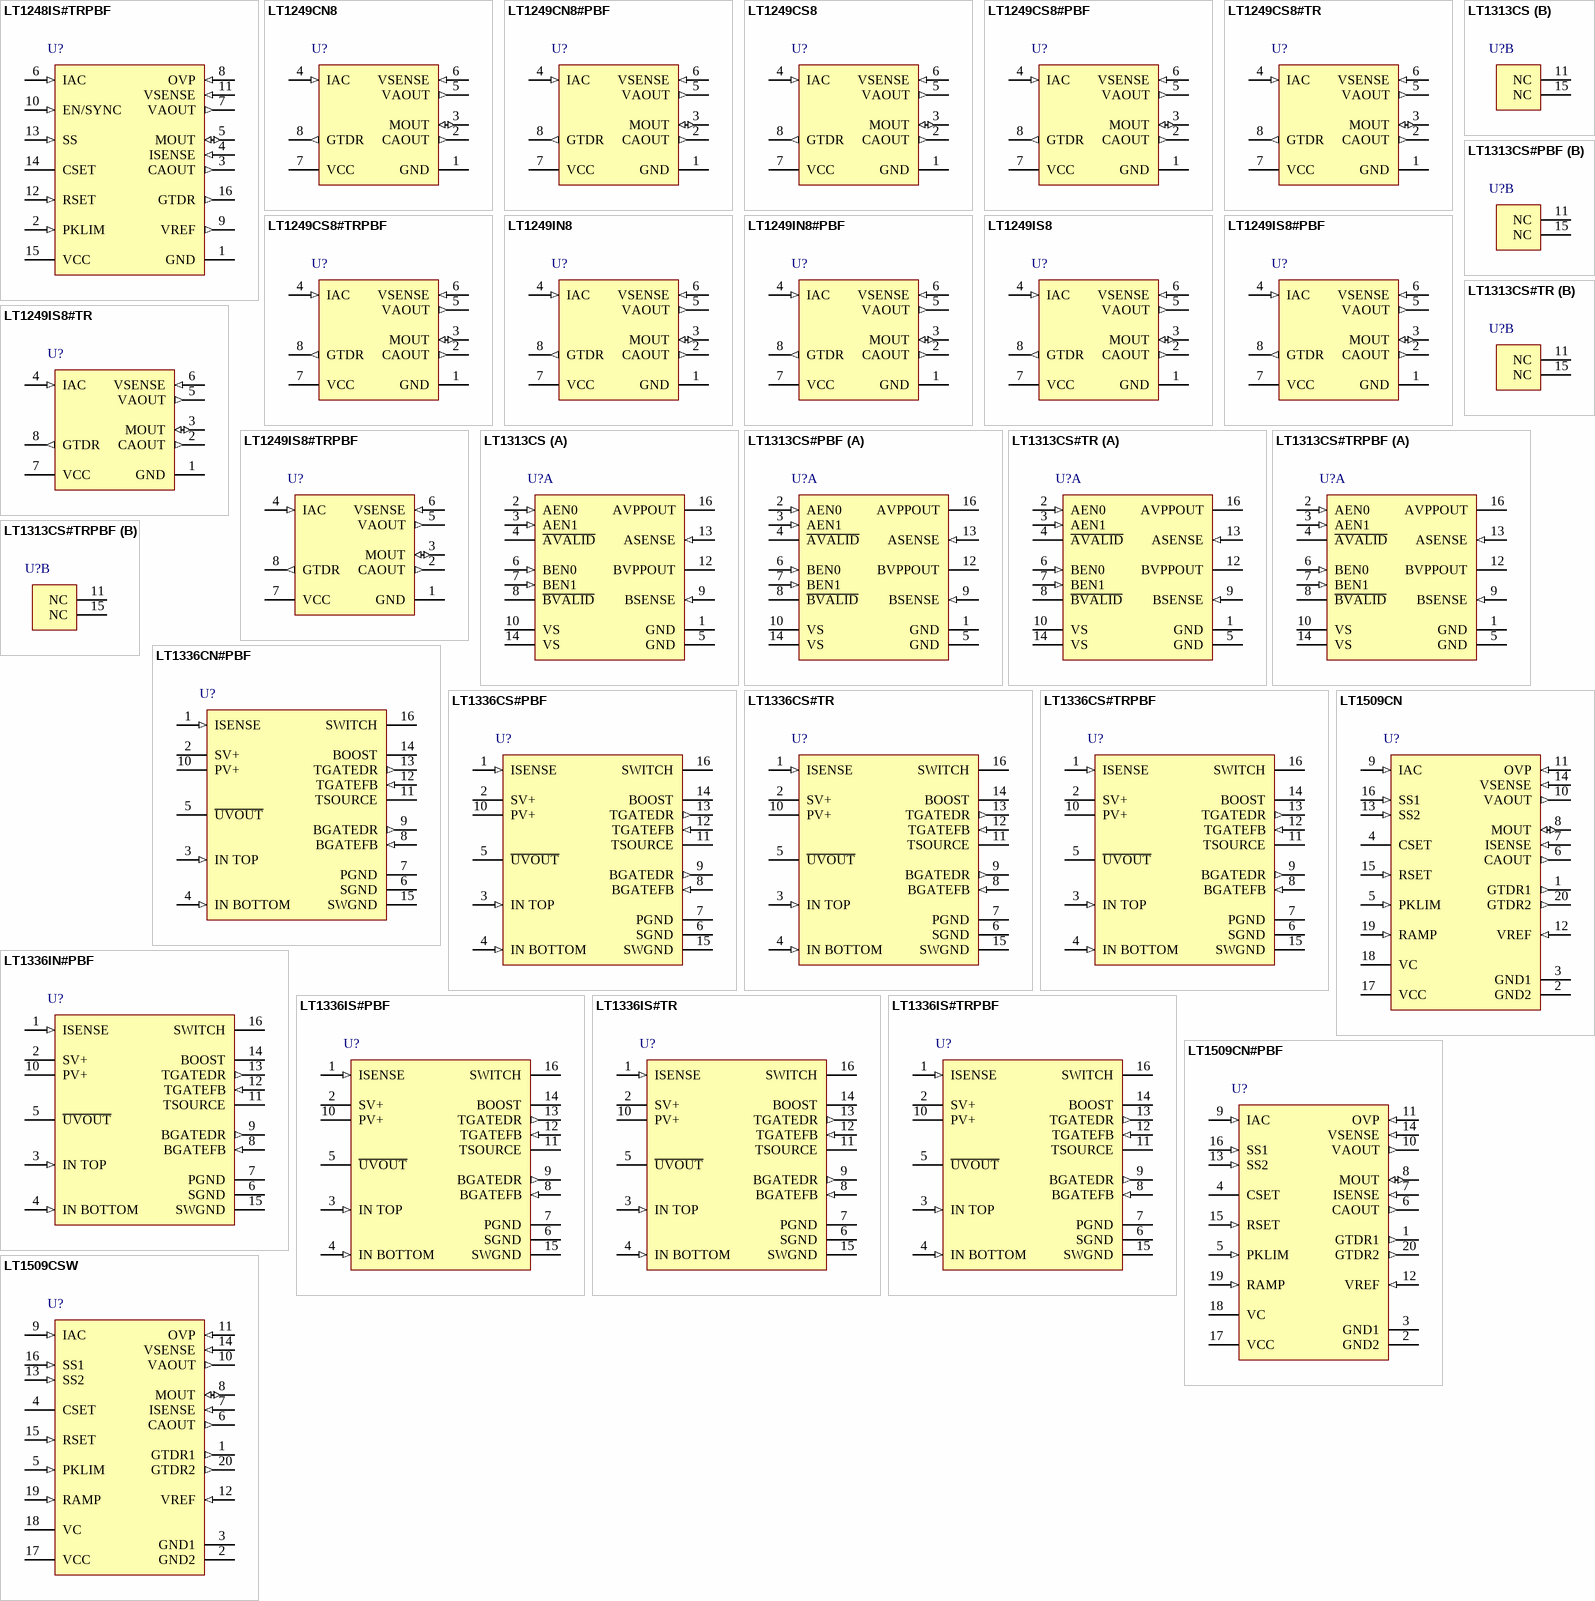
[diagram p4: symbols LT1248IS#TRPBF to LT1509CSW]